# Altium schematic symbol library IND,6.8uH,6A,Molded,SMD.Schlib: 1 symbol
Pins are listed as number, name and electrical type; pins without a type are passive.

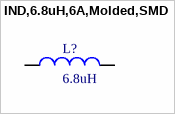
[diagram p0: symbol IND,6.8uH,6A,Molded,SMD]

## IND,6.8uH,6A,Molded,SMD
designator L?, comment 6.8uH
Shielded Molded Inductor 23.3mOhm Max Nonstandard
pins: 1, 2